# EAGLE library part PICAXE-20X2 (library bt_pic)
PICAXE 20 pin BASIC microcontroller chip PICAXE is a neat entry-level microcontroller system that is relatively cheap to get started with. The chip is programmed with a simple serial connection and the BASIC development environment is free! PICAXE has some excellent educational applications and support, and is a great entryway into more complicated embedded systems. If you’re look for a place to start with microcontrollers, PICAXE is a great way to go! datasheet.pdf <http://www.rev-ed.co.uk/docs/picaxe_manual1.pdf>
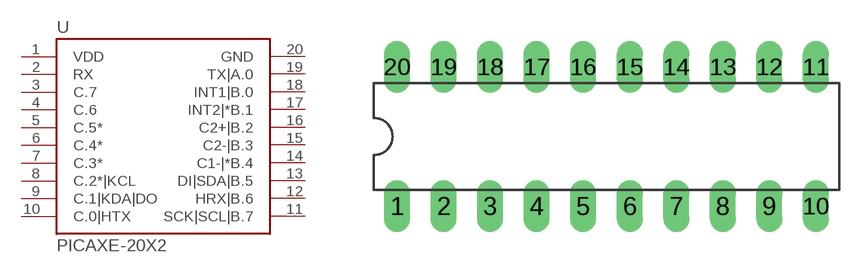
[diagram p10: symbol with the pads of DIL20; footprint DIL20]

Designator prefix U

## PICAXE-20X2  [DIL20]
1  VDD  pwr
2  RX
3  C.7
4  C.6  in
5  C.5*
6  C.4*
7  C.3*
8  C.2*|KCL
9  C.1|KDA|DO
10  C.0|HTX
11  SCK|SCL|B.7
12  HRX|B.6
13  DI|SDA|B.5
14  C1-|*B.4
15  C2-|B.3
16  C2+|B.2
17  INT2|*B.1
18  INT1|B.0
19  TX|A.0  out
20  GND  pwr

## Footprint DIL20 (pad centres in mm)
drill 0.813 pad 1.422 long: 1 -11.43,-3.81; 2 -8.89,-3.81; 3 -6.35,-3.81; 4 -3.81,-3.81; 5 -1.27,-3.81; 6 1.27,-3.81; 7 3.81,-3.81; 8 6.35,-3.81; 9 8.89,-3.81; 10 11.43,-3.81; 11 11.43,3.81; 12 8.89,3.81; 13 6.35,3.81; 14 3.81,3.81; 15 1.27,3.81; 16 -1.27,3.81; 17 -3.81,3.81; 18 -6.35,3.81; 19 -8.89,3.81; 20 -11.43,3.81